# Altium footprint library SLW-103-01-X-D.PcbLib: 1 footprints
Each footprint in its own frame and in the unit in brackets; x right, y up, seen from the top. Pads: shape width x height; smd on the part's side, far side on the other; paste and mask are expansions set on the pad; w line width, h text height; cw(c..) or ccw(c..) is an arc to the next point about the centre after c.
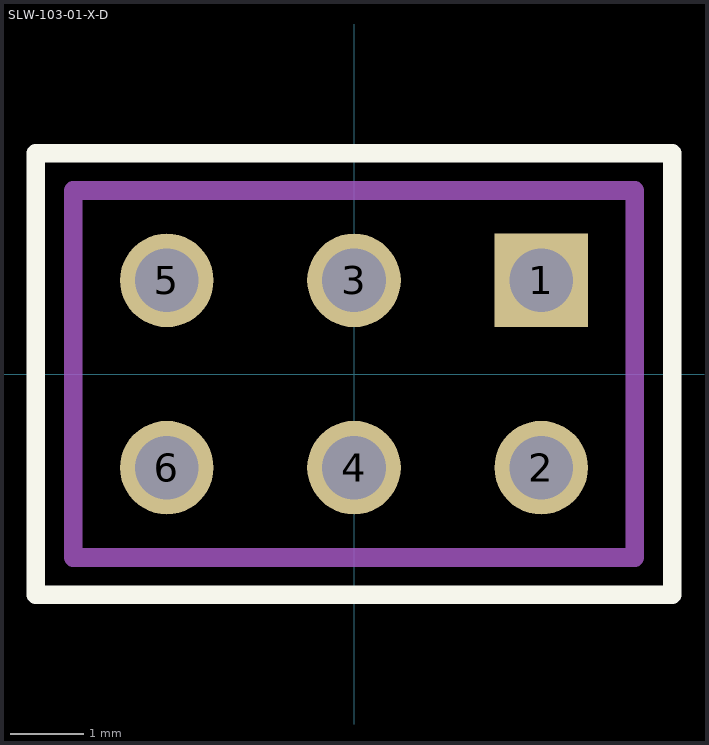
[diagram p0: the footprint, top view; thin cyan lines are the x and y axes]

## SLW-103-01-X-D [mil] "CONN RCPT 6POS 0.1 GOLD PCB"
height 179.92
pads (6):
  rect 50x50 hole 34: 1(100,50)
  round 50 hole 34: 2(100,-50) 3(0,50) 4(0,-50) 5(-100,50) 6(-100,-50)
Top Overlay:
  lines w10: -170,-118 170,-118 170,118 -170,118 -170,-118
Mechanical 1:
  lines w10: -150,-98 150,-98 150,98 -150,98 -150,-98
3D body "SLW-103-01-G-D.stp": height 180, standoff -115, extent -150,-97.5 150,97.5